# Altium footprint library MyPCB_Lib.PcbLib: 26 footprints (part 1 of 2)
Each footprint in its own frame and in the unit in brackets; x right, y up, seen from the top. Pads: shape width x height; smd on the part's side, far side on the other; paste and mask are expansions set on the pad; w line width, h text height; cw(c..) or ccw(c..) is an arc to the next point about the centre after c.
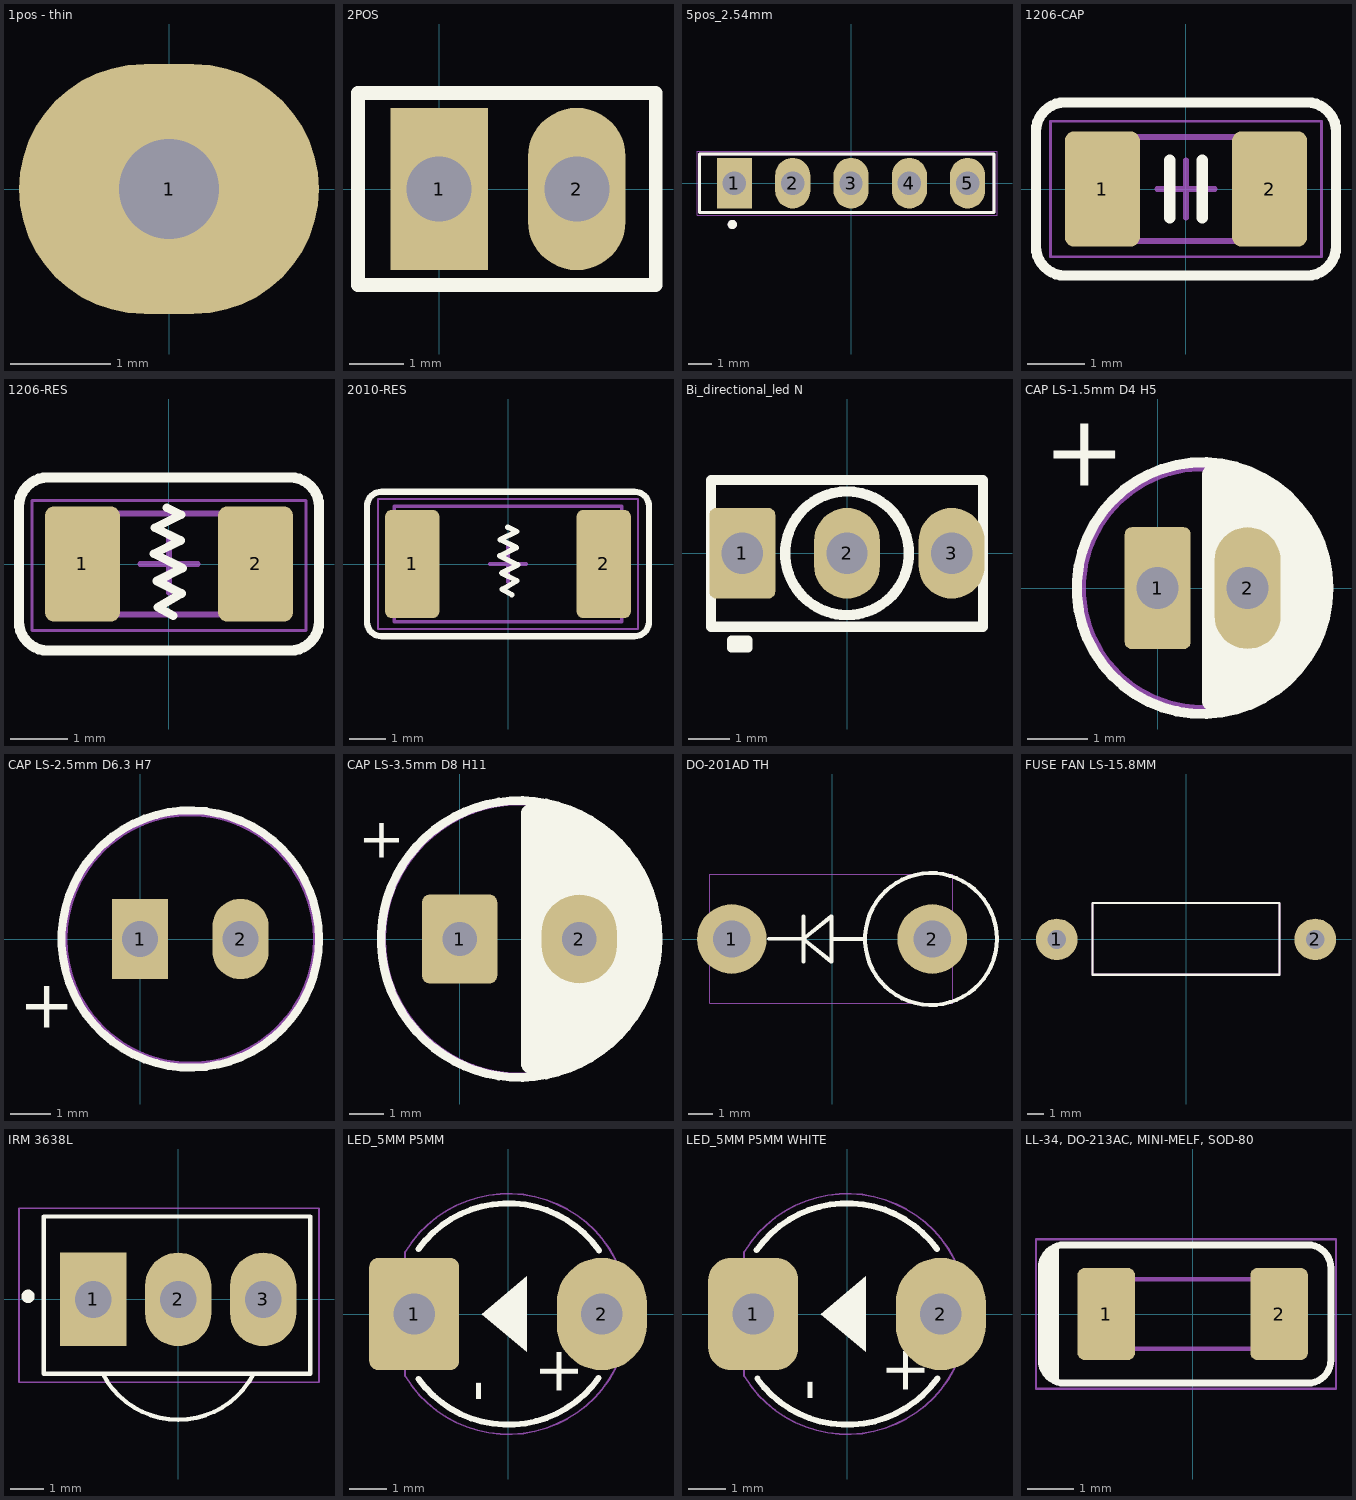
[diagram p0: the footprints below, top view; thin cyan lines are the x and y axes]

## 1pos - thin [mm]
pads (1):
  oval 3x2.5 hole 1: 1(0,0)

## 2POS [mm]
pads (2):
  rect 1.8x3 hole 1.2: 1(0,0)
  oval 1.8x3 hole 1.2: 2(2.54,0)
Top Overlay:
  lines w0.254: -1.5,-1.775 -1.5,1.775 4,1.775 4,-1.775 -1.5,-1.775

## 5pos_2.54mm [mm]
pads (5):
  rect 1.53x2.2 hole 1.02: 1(-5.08,0)
  oval 1.53x2.2 hole 1.02: 2(-2.54,0) 3(0,0) 4(2.54,0) 5(5.08,0)
Top Overlay:
  circle w0.2: c-5.17,-1.8 r0.1
  lines w0.127: -6.6,-1.27 -6.6,1.27 6.23,1.27 6.23,-1.27 -6.6,-1.27
Top Assembly:
  circle w0.2: c-5.17,-1.8 r0.1
  lines w0.127: -6.6,-1.27 -6.6,1.27 6.23,1.27 6.23,-1.27 -6.6,-1.27
Top Courtyard:
  lines w0.05: -6.709,-1.392 -6.709,1.39 6.358,1.39 6.358,-1.392 -6.709,-1.392

## 1206-CAP [mm] "1206-CAP"
pads (2):
  rrect25% 1.3x2 smd: 1(-1.45,0) 2(1.45,0)
Top Overlay:
  lines w0.18: -2.6,-1 ccw(c-2.1,-1) -2.1,-1.5 2.1,-1.5 ccw(c2.1,-1) 2.6,-1 2.6,1 ccw(c2.1,1) 2.1,1.5 -2.1,1.5 ccw(c-2.1,1) -2.6,1 -2.6,-1
  lines w0.2: -0.28,-0.5 -0.28,0.5 ; 0.28,-0.5 0.28,0.5
Mechanical 3:
  lines w0.05: -2.35,-1.175 2.35,-1.175 2.35,1.175 -2.35,1.175 -2.35,-1.175
  lines w0.1: -0.5,0 0.5,0 ; 0,-0.5 0,0.5 ; -1.7,-0.9 1.7,-0.9 ; -1.7,-0.9 -1.7,0.9 ; -1.7,-0.9 1.7,-0.9 ; -1.7,-0.9 -1.7,0.9 ; -1.7,0.9 1.7,0.9 ; -1.7,0.9 1.7,0.9 ; 1.7,-0.9 1.7,0.9 ; 1.7,-0.9 1.7,0.9
3D body "CAP-1206.STEP": height 1, standoff 0, extent -1.6,-0.8 1.6,0.8

## 1206-RES [mm] "1206-RES"
pads (2):
  rrect25% 1.3x2 smd: 1(-1.5,0) 2(1.5,0)
Top Overlay:
  lines w0.15: -0.037,0.976 0.208,0.854 -0.243,0.629 0.202,0.406 -0.259,0.176 0.236,-0.071 -0.212,-0.295 0.218,-0.51 -0.19,-0.749 0.075,-0.9
  lines w0.18: -2.6,-1 ccw(c-2.1,-1) -2.1,-1.5 2.1,-1.5 ccw(c2.1,-1) 2.6,-1 2.6,1 ccw(c2.1,1) 2.1,1.5 -2.1,1.5 ccw(c-2.1,1) -2.6,1 -2.6,-1
Mechanical 3:
  lines w0.05: -2.375,-1.15 -2.375,1.1 2.375,1.1 2.375,-1.15 -2.375,-1.15
  lines w0.1: -0.5,0 0.5,0 ; 0,-0.5 0,0.5 ; -1.675,-0.875 -1.675,0.875 1.675,0.875 1.675,-0.875 -1.675,-0.875
3D body "RES-1206.STEP": height 1, standoff 0, extent -1.6,-0.8 1.6,0.8

## 2010-RES [mm] "2010-RES"
pads (2):
  rrect25% 1.5x3 smd: 1(-2.65,0) 2(2.65,0)
Top Overlay:
  lines w0.15: -0.006,1.022 0.239,0.9 -0.211,0.675 0.233,0.453 -0.227,0.222 0.267,-0.025 -0.181,-0.249 0.249,-0.464 -0.159,-0.702 0.106,-0.854
  lines w0.17: -3.9,-1.6 ccw(c-3.5,-1.6) -3.5,-2 3.5,-2 ccw(c3.5,-1.6) 3.9,-1.6 3.9,1.6 ccw(c3.5,1.6) 3.5,2 -3.5,2 ccw(c-3.5,1.6) -3.9,1.6 -3.9,-1.6
Mechanical 3:
  lines w0.05: -3.6,-1.8 3.6,-1.8 3.6,1.8 -3.6,1.8 -3.6,-1.8
  lines w0.1: -0.5,0 0.5,0 ; 0,-0.5 0,0.5 ; -3.15,-1.6 3.15,-1.6 3.15,1.6 -3.15,1.6 -3.15,-1.6
3D body "CRM2010-FX-1000ELF.STEP": height 0.7, standoff 0, extent -2.5,-1.25 2.5,1.25

## Bi_directional_led N [mm] "Bi_directional_led"
pads (3):
  rrect20% 1.6x2.2 hole 1: 1(-2.541,0)
  oval 1.6x2.2 hole 1: 2(0,0) 3(2.54,0)
Top Overlay:
  lines w0.22: -2.8,-2.3 -2.8,-2.1 -2.4,-2.1 -2.4,-2.3 -2.8,-2.3
  lines w0.25: -3.3,-1.78 3.3,-1.78 3.3,1.78 -3.3,1.78 -3.3,-1.78 ; -1.5,0 -1.496,-0.105 -1.485,-0.209 -1.467,-0.312 -1.442,-0.413 -1.41,-0.513 -1.37,-0.61 -1.324,-0.704 -1.272,-0.795 -1.214,-0.882 -1.149,-0.964 -1.079,-1.042 -1.004,-1.115 -0.923,-1.182 -0.839,-1.244 -0.75,-1.299 -0.658,-1.348 -0.562,-1.391 -0.464,-1.427 -0.363,-1.455 -0.26,-1.477 -0.157,-1.492 -0.052,-1.499 0.052,-1.499 0.157,-1.492 0.26,-1.477 0.363,-1.455 0.464,-1.427 0.562,-1.391 0.658,-1.348 0.75,-1.299 0.839,-1.244 0.923,-1.182 1.004,-1.115 1.079,-1.042 1.149,-0.964 1.214,-0.882 1.272,-0.795 1.324,-0.704 1.37,-0.61 1.41,-0.513 1.442,-0.413 1.467,-0.312 1.485,-0.209 1.496,-0.105 1.5,0 1.496,0.105 1.485,0.209 1.467,0.312 1.442,0.413 1.41,0.513 1.37,0.61 1.324,0.704 1.272,0.795 1.214,0.882 1.149,0.964 1.079,1.042 1.004,1.115 0.923,1.182 0.839,1.244 0.75,1.299 0.658,1.348 0.562,1.391 0.464,1.427 0.363,1.455 0.26,1.477 0.157,1.492 0.052,1.499 -0.052,1.499 -0.157,1.492 -0.26,1.477 -0.363,1.455 -0.464,1.427 -0.562,1.391 -0.658,1.348 -0.75,1.299 -0.839,1.244 -0.923,1.182 -1.004,1.115 -1.079,1.042 -1.149,0.964 -1.214,0.882 -1.272,0.795 -1.324,0.704 -1.37,0.61 -1.41,0.513 -1.442,0.413 -1.467,0.312 -1.485,0.209 -1.496,0.105 -1.5,0
3D body "Bi-Color LED - Common Cathode v3.step": height 22.3, standoff -11.5, extent -2.77,-1.886 2.77,1.886

## CAP LS-1.5mm D4 H5 [mm]
pads (2):
  rrect20% 1.1x2.032 hole 0.7: 1(0,0)
  oval 1.1x2.032 hole 0.7: 2(1.5,0)
Top Overlay:
  circle w0.17: c0.75,0 r2.1
  region: 0.742,1.881 0.742,-1.891 0.786,-1.936 0.947,-1.936 1.264,-1.873 1.562,-1.749 1.83,-1.57 1.944,-1.456 2.025,-1.375 2.174,-1.226 2.407,-0.877 2.568,-0.489 2.65,-0.076 2.65,0.134 2.65,0.15 2.65,0.322 2.583,0.661 2.451,0.979 2.259,1.266 2.137,1.388 1.925,1.6 1.855,1.67 1.69,1.78 1.507,1.856 1.312,1.895 1.213,1.895 0.887,1.895
  lines w0.3: 0.887,1.895 cw(c0.75,0) 0.89,-1.895
  text "+" at -1.905,1.705 h1.2
Top Assembly:
  circle w0.1: c0.75,0 r2
3D body "Aluminum_electrolytic_capacitor_radial_D4_H5_PinD0.45_Pitch1.5_nominal_blue.step": height 5, standoff -3, extent -1.25,-2 2.742,2

## CAP LS-2.5mm D6.3 H7 [mm]
pads (2):
  rect 1.4x2 hole 0.9: 1(0,0)
  oval 1.4x2 hole 0.9: 2(2.5,0)
Top Overlay:
  circle w0.2: c1.25,0 r3.2
  text "+" at -3.008,-2.21 h1.2
Top Assembly:
  circle w0.1: c1.25,0 r3.1
3D body "Aluminum_electrolytic_capacitor_radial_D6.3_H7_PinD0.5_Pitch2.5_nominal_blue.step": height 7, standoff -3, extent -1.888,-3.142 4.388,3.142

## CAP LS-3.5mm D8 H11 [mm] "CAP LS-3.5mm D8"
pads (2):
  rrect20% 2.2x2.6 hole 1: 1(0,0)
  oval 2.2x2.6 hole 1: 2(3.5,0)
Top Overlay:
  circle w0.254: c1.75,0 r4.05
  circle w0.254: c1.75,0 r4.05
  region: 1.808,3.7 2.348,3.7 2.599,3.7 3.089,3.602 3.551,3.41 3.968,3.132 4.144,2.956 4.9,2.2 5.066,2.034 5.328,1.642 5.508,1.207 5.6,0.745 5.6,0.51 5.6,-0.593 5.6,-0.761 5.534,-1.091 5.406,-1.402 5.219,-1.681 5.1,-1.8 5.1,-1.848 5.081,-1.941 5.045,-2.029 4.992,-2.108 4.959,-2.141 4,-3.1 3.857,-3.243 3.522,-3.467 3.149,-3.621 2.753,-3.7 2.551,-3.7 1.808,-3.725
  lines w0.5: 2.038,3.689 cw(c1.75,0) 2.056,-3.687
  text "-" at 3.25,1.35 h1
  text "+" at -2.973,2.374 h1.2
  text "-" at 3.25,1.35 h1
Top Assembly:
  circle w0.1: c1.75,0 r4
  circle w0.1: c1.75,0 r3.95
3D body "Aluminum_electrolytic_capacitor_radial_D8_H11_PinD0.6_Pitch3.5_nominal_blue.step": height 11, standoff -3, extent -2.241,-3.992 5.75,3.992

## DO-201AD TH [mm] "DO-201AD TH"
pads (2):
  round 2.8 hole 1.5: 1(-4.025,0) 2(4.025,0)
Top Overlay:
  circle w0.16: c3.975,0 r2.65
  lines w0.16: -2.525,0.01 -1.155,0.01 ; -1.155,-0.9 -1.155,0 ; -1.155,0.9 -1.155,0 ; -0.025,-0.01 -0.025,0.91 -1.155,0 ; -0.025,0 1.314,0 ; -0.025,0.01 -0.025,-0.91 -1.155,0
Top Courtyard:
  lines w0.05: -4.905,-2.575 4.85,-2.575 4.85,2.6 -4.905,2.6 -4.905,-2.575
3D body: height 10, standoff 8.5, extent 1.499,-2.476 6.501,2.526
3D body: height 13.6, standoff 12.4, extent -4,-0.6 4,0.6
3D body: height 13, standoff -2, extent -4.625,-0.6 -3.425,0.6
3D body: height 13, standoff 7, extent 3.425,-0.6 4.625,0.6
3D body: height 11.5, standoff 0.5, extent 1.5,-2.475 6.5,2.525
3D body: height 4, standoff -2, extent 3.425,-0.6 4.625,0.6
3D body: height 13.6, standoff 12.4, extent -4.65,-0.575 -3.45,0.625
3D body: height 13.6, standoff 12.4, extent 3.425,-0.6 4.625,0.6

## FUSE FAN LS-15.8MM [mm] "31TD2A250V"
pads (2):
  round 2.54 hole 1.143 mask+0.102: 1(-7.9,0) 2(7.9,0)
Top Overlay:
  lines w0.15: -5.715,-2.175 -5.715,2.225 5.715,2.225 5.715,-2.159
  lines w0.151: -5.715,-2.159 5.715,-2.159
Top Courtyard:
  lines w0.1: -5.715,-2.159 -5.715,2.2 5.715,2.2 5.715,-2.159
  lines w0.151: -5.715,-2.159 5.715,-2.159
3D body: height 4.2, standoff 0.8, extent -3,-1.7 3,1.7
3D body: height 2.95, standoff 2.05, extent -7.9,-0.449 -5.9,0.449
3D body: height 2.95, standoff 2.05, extent -8.35,-0.447 -7.45,0.447
3D body: height 4.5, standoff 0.5, extent 3.2,-2 5.7,2
3D body: height 4.5, standoff 0.5, extent -5.7,-2 -3.2,2
3D body: height 2.95, standoff 2.05, extent 7.45,-0.45 8.35,0.45
3D body: height 2.95, standoff 2.05, extent 6,-0.45 8,0.45
3D body: height 0, standoff 0, extent 7.9,0 7.9,0
3D body: height 2.5, standoff 2.5, extent -8.346,-0.449 -7.45,0.449

## IRM 3638L [mm]
pads (3):
  rect 1.98x2.8 hole 1.1: 1(-2.54,0)
  oval 1.98x2.8 hole 1.1: 2(0,0) 3(2.54,0)
Top Overlay:
  circle w0.2: c-4.49,0.09 r0.1
  lines w0.127: -2.257,-2.225 ccw(c0,-1.06) 2.257,-2.225 ; 3,2.475 -3,2.475 ; -3,2.475 3.95,2.475 3.95,-2.225 -4.02,-2.225 -4.02,2.475 -3,2.475
Top Courtyard:
  lines w0.05: -4.76,-2.475 -4.76,2.725 4.21,2.725 4.21,-2.475 -4.76,-2.475

## LED_5MM P5MM [mm] "LED_5mm P5MM"
pads (2):
  rrect20% 2.4x3 hole 1.1: 1(-2.5,0)
  oval 2.4x3 hole 1.1: 2(2.5,0)
Top Overlay:
  region: 0.5,1 -0.7,0 0.5,-1
  lines w0.16: -2.384,-1.738 ccw(c0.006,0) 2.416,-1.711 ; -2.384,1.738 cw(c0.006,0) 2.424,1.699
  text "-" at -0.325,-2.35 h1.2
  text "+" at 1.875,-2.225 h1.2
Top Assembly:
  circle w0.2: c-3.2,0 r0.1
Top Courtyard:
  lines w0.05: -2.75,-1.64 -2.75,1.64 ; -2.743,-1.652 ccw(c0.007,0) -2.743,1.652
3D body "JesusMC_led 5mm v1.step": height 21.5, standoff -3, extent -2.494,-2.898 2.894,2.898

## LED_5MM P5MM WHITE [mm] "LED_5mm P5MM WHITE"
pads (2):
  rrect50% 2.4x3 hole 1.1: 1(-2.5,0)
  oval 2.4x3 hole 1.1: 2(2.5,0)
Top Overlay:
  region: 0.5,1 -0.7,0 0.5,-1
  lines w0.16: -2.407,1.705 cw(c0.006,0) 2.404,1.728 ; -2.392,-1.726 ccw(c0.006,0) 2.412,-1.716
  text "+" at 2.075,-2.2 h1.2
  text "-" at -0.525,-2.325 h1.2
Top Assembly:
  circle w0.2: c-3.2,0 r0.1
Top Courtyard:
  lines w0.05: -2.75,-1.64 -2.75,1.64 ; -2.743,-1.652 ccw(c0.007,0) -2.743,1.652
3D body "5mm LED.stp": height 12.6, standoff -7, extent -2.493,-2.939 2.957,2.939

## LL-34, DO-213AC, MINI-MELF, SOD-80 [mm] "LL-34, DO-213AC, MINI-MELF, SOD-80"
pads (2):
  rrect25% 1.25x2 smd: 1(-1.875,0) 2(1.875,0)
Top Overlay:
  rectangle: -3.301,-1.175 -2.906,1.2
  region: -2.906,-1.006 -2.906,-1.444 -2.941,-1.478 -3.028,-1.478 -3.286,-1.006
  region: -2.906,1 -2.906,1.437 -2.941,1.472 -3.028,1.472 -3.286,1
  lines w0.15: -3.286,-1 ccw(c-2.786,-1) -2.786,-1.5 2.5,-1.5 ccw(c2.5,-1) 3,-1 3,1 ccw(c2.5,1) 2.5,1.5 -2.786,1.5 ccw(c-2.786,1) -3.286,1 -3.286,-1
Top Assembly:
  lines w0.1: -1.75,-0.75 -1.75,0.75 1.75,0.75 1.75,-0.75 -1.75,-0.75
Top Courtyard:
  lines w0.05: -3.4,-1.621 3.111,-1.621 3.111,1.621 -3.4,1.621 -3.4,-1.621
3D body "TZMB22-GS08.stp": height 1.5, standoff 0, extent -1.75,-0.735 1.75,0.735